# Altium footprint library RES_ERJU02F5102X.PcbLib: 1 footprints
Each footprint in its own frame and in the unit in brackets; x right, y up, seen from the top. Pads: shape width x height; smd on the part's side, far side on the other; paste and mask are expansions set on the pad; w line width, h text height; cw(c..) or ccw(c..) is an arc to the next point about the centre after c.
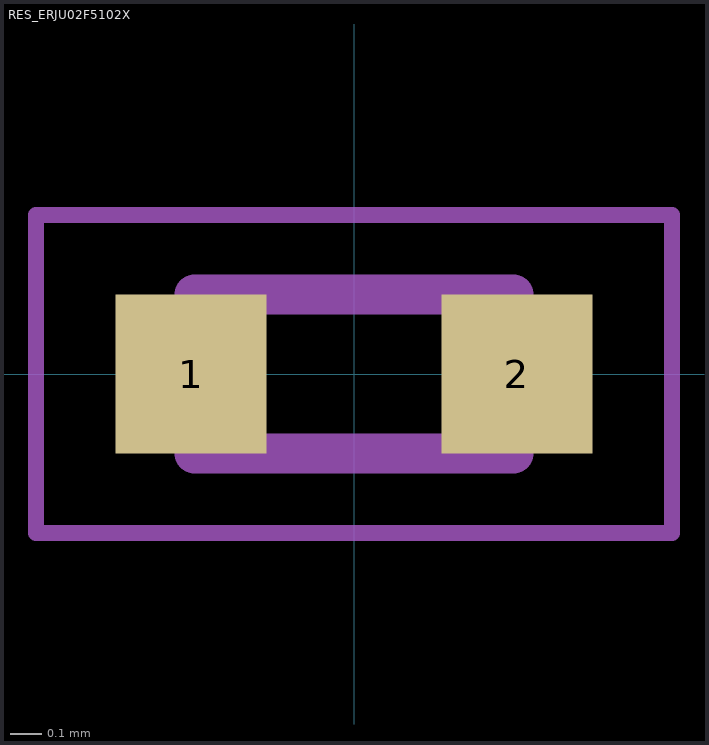
[diagram p0: the footprint, top view; thin cyan lines are the x and y axes]

## RES_ERJU02F5102X [mm]
pads (2):
  rect 0.475x0.5 smd: 1(-0.512,0) 2(0.512,0)
Mechanical 13:
  lines w0.127: -0.5,-0.25 0.5,-0.25 0.5,0.25 -0.5,0.25 -0.5,-0.25
Mechanical 15:
  lines w0.05: -1,-0.5 1,-0.5 1,0.5 -1,0.5 -1,-0.5
3D body "ERJU02F5102X.STEP": height 0.35, standoff 0, extent -0.488,-0.25 0.512,0.25